# Altium footprint library DMT3020LDV.PcbLib: 1 footprints
Each footprint in its own frame and in the unit in brackets; x right, y up, seen from the top. Pads: shape width x height; smd on the part's side, far side on the other; paste and mask are expansions set on the pad; w line width, h text height; cw(c..) or ccw(c..) is an arc to the next point about the centre after c.
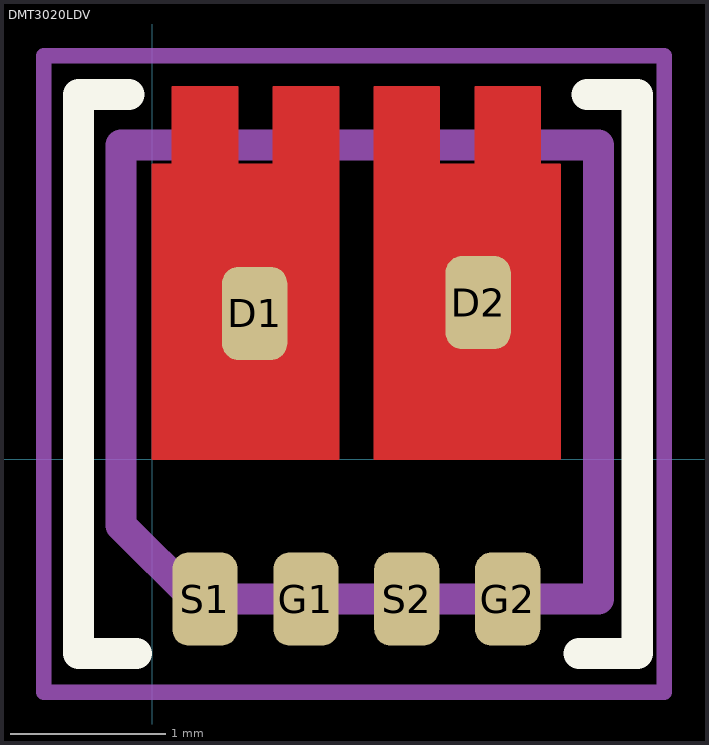
[diagram p0: the footprint, top view; thin cyan lines are the x and y axes]

## DMT3020LDV [mm]
pads (6):
  rrect50% 0.42x0.6 smd mask+0: D1(0.66,0.94) D2(2.1,1.01) G1(0.99,-0.9) G2(2.29,-0.9) S1(0.34,-0.9) S2(1.64,-0.9)
Top Layer:
  region: 1.43,0 1.43,2.4 1.85,2.4 1.85,1.9 2.08,1.9 2.08,2.4 2.5,2.4 2.5,1.9 2.63,1.9 2.63,0
  region: 0,0 0,1.9 0.13,1.9 0.13,2.4 0.55,2.4 0.55,1.9 0.78,1.9 0.78,2.4 1.2,2.4 1.2,0
  lines w0.01: 0,0 1.2,0 1.2,2.4 0.78,2.4 0.78,1.9 0.55,1.9 0.55,2.4 0.13,2.4 0.13,1.9 0,1.9 0,0 ; 1.43,0 2.63,0 2.63,1.9 2.5,1.9 2.5,2.4 2.08,2.4 2.08,1.9 1.85,1.9 1.85,2.4 1.43,2.4 1.43,0
Top Overlay:
  lines w0.2: -0.15,2.35 -0.475,2.35 -0.475,0 -0.475,-1.25 -0.1,-1.25 ; 2.75,-1.25 3.125,-1.25 3.125,2.35 2.8,2.35
Top Paste:
  region: 1.43,0 1.43,2.4 1.85,2.4 1.85,1.9 2.08,1.9 2.08,2.4 2.5,2.4 2.5,1.9 2.63,1.9 2.63,0
  region: 0,0 0,1.9 0.13,1.9 0.13,2.4 0.55,2.4 0.55,1.9 0.78,1.9 0.78,2.4 1.2,2.4 1.2,0
Top Solder:
  region: 1.43,0 1.43,2.4 1.85,2.4 1.85,1.9 2.08,1.9 2.08,2.4 2.5,2.4 2.5,1.9 2.63,1.9 2.63,0
  region: 0,0 0,1.9 0.13,1.9 0.13,2.4 0.55,2.4 0.55,1.9 0.78,1.9 0.78,2.4 1.2,2.4 1.2,0
Mechanical 3:
  lines w0.2: -0.2,-0.425 0.275,-0.9 2.875,-0.9 2.875,2.025 -0.2,2.025 -0.2,1.675 -0.2,-0.425
Mechanical 7:
  lines w0.1: -0.7,-1.5 -0.5,-1.5 3.3,-1.5 3.3,2.6 -0.7,2.6 -0.7,-1.5
Mechanical 9:
  text "'.Designator'" at -5.958,0.017 h1.02
3D body "PowerDI3333-8.stp": height 0.82, standoff 0.01, extent -0.325,-1.1 2.975,2.2
3D body: height 0.85, standoff -0.81, extent -0.7,-1.5 3.3,2.6